# Altium footprint library MCU_Lib.PcbLib: 2 footprints
Each footprint in its own frame and in the unit in brackets; x right, y up, seen from the top. Pads: shape width x height; smd on the part's side, far side on the other; paste and mask are expansions set on the pad; w line width, h text height; cw(c..) or ccw(c..) is an arc to the next point about the centre after c.
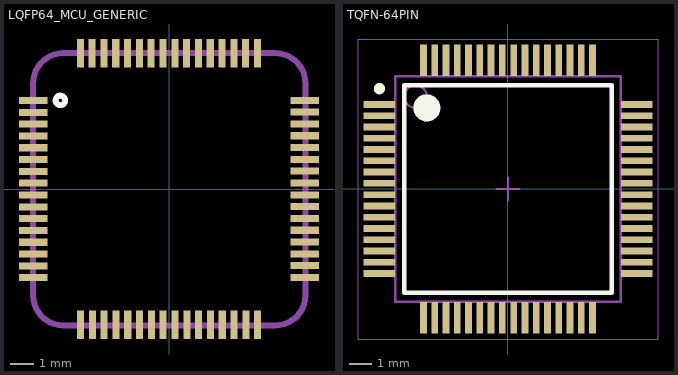
[diagram p0: the footprints below, top view; thin cyan lines are the x and y axes]

## LQFP64_MCU_GENERIC [mm]
pads (64):
  rect 1.2x0.3 smd: 1(-5.75,3.746) 2(-5.75,3.246) 3(-5.75,2.746) 4(-5.75,2.246) 5(-5.75,1.746) 6(-5.75,1.246) 7(-5.75,0.746) 8(-5.75,0.246) 9(-5.75,-0.254) 10(-5.75,-0.754) 11(-5.75,-1.254) 12(-5.75,-1.754) 13(-5.75,-2.254) 14(-5.75,-2.754) 15(-5.75,-3.254) 16(-5.75,-3.754) 33(5.75,-3.746) 34(5.75,-3.246) 35(5.75,-2.746) 36(5.75,-2.246) 37(5.75,-1.746) 38(5.75,-1.246) 39(5.75,-0.746) 40(5.75,-0.246) 41(5.75,0.254) 42(5.75,0.754) 43(5.75,1.254) 44(5.75,1.754) 45(5.75,2.254) 46(5.75,2.754) 47(5.75,3.254) 48(5.75,3.754)
  rect 0.3x1.2 smd: 17(-3.746,-5.75) 18(-3.246,-5.75) 19(-2.746,-5.75) 20(-2.246,-5.75) 21(-1.746,-5.75) 22(-1.246,-5.75) 23(-0.746,-5.75) 24(-0.246,-5.75) 25(0.254,-5.75) 26(0.754,-5.75) 27(1.254,-5.75) 28(1.754,-5.75) 29(2.254,-5.75) 30(2.754,-5.75) 31(3.254,-5.75) 32(3.754,-5.75) 49(3.746,5.75) 50(3.246,5.75) 51(2.746,5.75) 52(2.246,5.75) 53(1.746,5.75) 54(1.246,5.75) 55(0.746,5.75) 56(0.246,5.75) 57(-0.254,5.75) 58(-0.754,5.75) 59(-1.254,5.75) 60(-1.754,5.75) 61(-2.254,5.75) 62(-2.754,5.75) 63(-3.254,5.75) 64(-3.754,5.75)
Top Overlay:
  circle w0.254: c-4.6,3.75 r0.2
Mechanical 1:
  lines w0.254: -5.75,-4.505 ccw(c-4.48,-4.505) -4.48,-5.775 4.505,-5.775 ccw(c4.505,-4.505) 5.775,-4.505 5.775,-3.75 5.775,4.48 ccw(c4.505,4.48) 4.505,5.75 3.775,5.75 -3.725,5.75 -4.48,5.75 ccw(c-4.48,4.48) -5.75,4.48 -5.75,-4.505
3D body "TSQFP50P1200X1200X160-64N.step": height 1.6, standoff 0, extent -6,-6 6,6

## TQFN-64PIN [mm] "TSQFP, 64-Leads, Body 10,00x10,00mm, Pitch 0,50mm, IPC Medium Density"
height 1.6
pads (64):
  rect 1.4x0.3 smd: 1(-5.7,3.75) 2(-5.7,3.25) 3(-5.7,2.75) 4(-5.7,2.25) 5(-5.7,1.75) 6(-5.7,1.25) 7(-5.7,0.75) 8(-5.7,0.25) 9(-5.7,-0.25) 10(-5.7,-0.75) 11(-5.7,-1.25) 12(-5.7,-1.75) 13(-5.7,-2.25) 14(-5.7,-2.75) 15(-5.7,-3.25) 16(-5.7,-3.75) 33(5.7,-3.75) 34(5.7,-3.25) 35(5.7,-2.75) 36(5.7,-2.25) 37(5.7,-1.75) 38(5.7,-1.25) 39(5.7,-0.75) 40(5.7,-0.25) 41(5.7,0.25) 42(5.7,0.75) 43(5.7,1.25) 44(5.7,1.75) 45(5.7,2.25) 46(5.7,2.75) 47(5.7,3.25) 48(5.7,3.75)
  rect 0.3x1.4 smd: 17(-3.75,-5.7) 18(-3.25,-5.7) 19(-2.75,-5.7) 20(-2.25,-5.7) 21(-1.75,-5.7) 22(-1.25,-5.7) 23(-0.75,-5.7) 24(-0.25,-5.7) 25(0.25,-5.7) 26(0.75,-5.7) 27(1.25,-5.7) 28(1.75,-5.7) 29(2.25,-5.7) 30(2.75,-5.7) 31(3.25,-5.7) 32(3.75,-5.7) 49(3.75,5.7) 50(3.25,5.7) 51(2.75,5.7) 52(2.25,5.7) 53(1.75,5.7) 54(1.25,5.7) 55(0.75,5.7) 56(0.25,5.7) 57(-0.25,5.7) 58(-0.75,5.7) 59(-1.25,5.7) 60(-1.75,5.7) 61(-2.25,5.7) 62(-2.75,5.7) 63(-3.25,5.7) 64(-3.75,5.7)
Top Overlay:
  circle w0.6: c-3.6,3.6 r0.3
  circle w0.25: c-5.7,4.45 r0.125
  lines w0.2: -4.6,-4.6 4.6,-4.6 4.6,4.6 -4.6,4.6 -4.6,-4.6
Mechanical 13:
  circle w0.1: c-4.1,4.1 r0.5
  lines w0.1: -5,-5 5,-5 5,5 -5,5 -5,-5
Mechanical 15:
  lines w0.05: -6.65,-6.65 6.65,-6.65 6.65,6.65 -6.65,6.65 -6.65,-6.65
  lines w0.1: -0.5,0 0.5,0 ; 0,-0.5 0,0.5
3D body "TSQFP50P1200X1200X160-64N.step": height 1.6, standoff 0, extent -6,-6 6,6